# Altium footprint library ComponentsLib.PcbLib: 1 footprints
Each footprint in its own frame and in the unit in brackets; x right, y up, seen from the top. Pads: shape width x height; smd on the part's side, far side on the other; paste and mask are expansions set on the pad; w line width, h text height; cw(c..) or ccw(c..) is an arc to the next point about the centre after c.
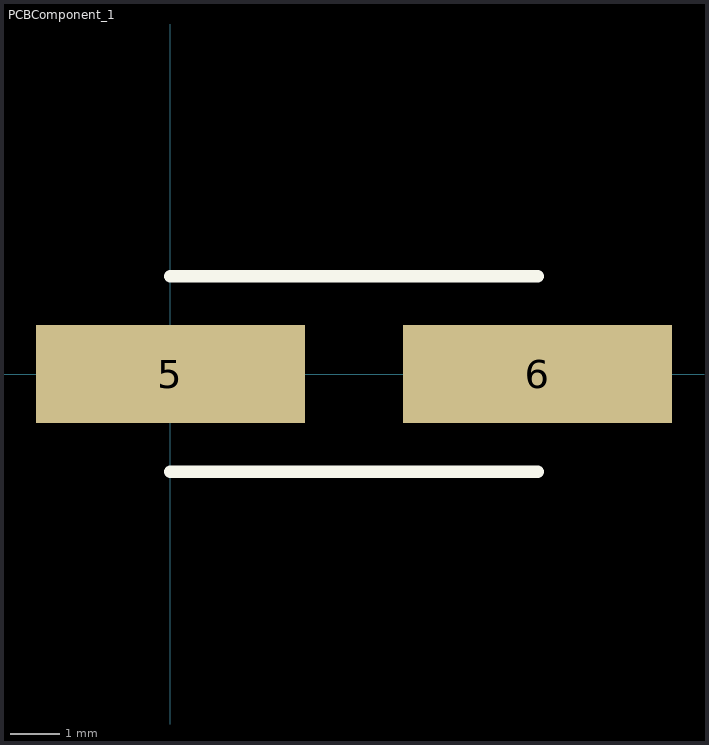
[diagram p0: the footprint, top view; thin cyan lines are the x and y axes]

## PCBComponent_1 [mm]
pads (2):
  rect 5.5x2 smd: 5(0,0) 6(7.5,0)
Top Overlay:
  lines w0.254: 0,-2 7.5,-2 ; 0,2 7.5,2
3D body: height 4.3, standoff 0, extent 0,-1.5 7.5,1.5